# Altium footprint library Schottky.PcbLib: 11 footprints
Each footprint in its own frame and in the unit in brackets; x right, y up, seen from the top. Pads: shape width x height; smd on the part's side, far side on the other; paste and mask are expansions set on the pad; w line width, h text height; cw(c..) or ccw(c..) is an arc to the next point about the centre after c.
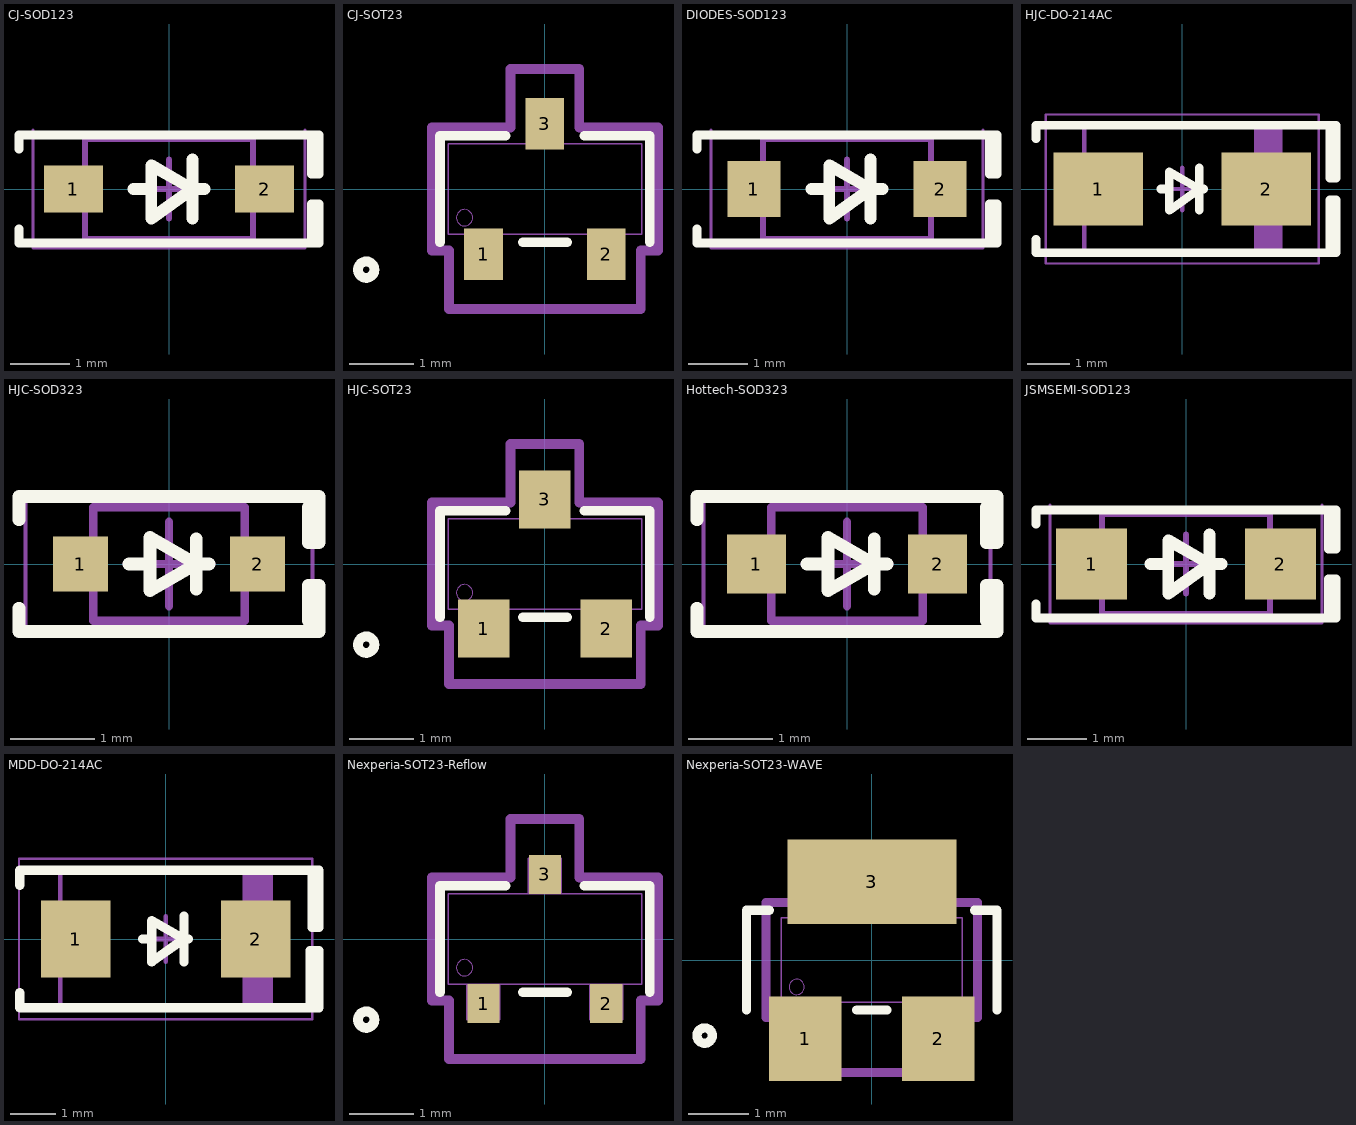
[diagram p0: the footprints below, top view; thin cyan lines are the x and y axes]

## CJ-SOD123 [mm] "CJ(江苏长电/长晶) SOD123 推荐封装"
pads (2):
  rect 1x0.8 smd: 1(-1.62,0) 2(1.62,0)
Top Overlay:
  lines w0.15: -2.54,-0.675 -2.54,-0.916 2.54,-0.916 ; -2.54,0.675 -2.54,0.916 2.54,0.916 ; 2.54,-0.916 2.54,-0.254 2.413,-0.254 2.413,-0.916 2.54,-0.916 ; 2.54,0.916 2.413,0.916 2.413,0.254 2.54,0.254 2.54,0.916
  lines w0.2: -0.6,0 -0.3,0 ; 0.4,-0.5 0.4,0.5 ; 0.6,0 0.4,0 ; 0.4,0 -0.3,-0.5 -0.3,0.4 0.4,0
Mechanical 13:
  lines w0.1: -1.425,-0.85 1.425,-0.85 1.425,0.85 -1.425,0.85 -1.425,-0.85
Mechanical 15:
  lines w0.05: -2.3,0.9 2.3,0.9 ; -2.3,1 -2.3,-1 2.3,-1 2.3,1
  lines w0.1: -0.5,0 0.5,0 ; 0,-0.5 0,0.5
3D body "SOD-123.step": height 1.27, standoff 0, extent -1.85,-0.8 1.85,0.8

## CJ-SOT23 [mm] "CJ(江苏长电/长晶) SOT23 回流焊"
pads (3):
  rect 0.6x0.8 smd mask+0.1: 1(-0.95,-1.01) 2(0.95,-1.01) 3(0,1.01)
Top Overlay:
  circle w0.152: c-2.769,-1.25 r0.127
  lines w0.152: -1.626,-0.826 -1.626,0.826 -0.612,0.826 ; -0.34,-0.826 0.34,-0.826 ; 0.612,0.826 1.626,0.826 1.626,-0.826
Mechanical 13:
  circle w0: c-1.245,-0.445 r0.127
  lines w0.025: -1.499,-0.699 1.499,-0.699 1.499,0.699 -1.499,0.699 -1.499,-0.699 ; -1.206,-1.25 -1.206,-0.699 -0.699,-0.699 -0.699,-1.25 -1.206,-1.25 ; -0.254,0.699 0.254,0.699 0.254,1.25 -0.254,1.25 -0.254,0.699 ; 0.699,-1.25 0.699,-0.699 1.206,-0.699 1.206,-1.25 0.699,-1.25
Mechanical 15:
  lines w0.152: -1.753,-0.953 -1.753,0.953 -0.533,0.953 -0.533,1.86 0.533,1.86 0.533,0.953 1.753,0.953 1.753,-0.953 1.486,-0.953 1.486,-1.86 -1.486,-1.86 -1.486,-0.953 -1.753,-0.953
3D body "SOT23_NEX.step": height 1.09, standoff 0, extent -1.499,-1.25 1.499,1.25

## DIODES-SOD123 [mm] "DIODES(美台) SOD123 推荐封装"
pads (2):
  rect 0.9x0.95 smd: 1(-1.575,0) 2(1.575,0)
Top Overlay:
  lines w0.15: -2.54,-0.675 -2.54,-0.916 2.54,-0.916 ; -2.54,0.675 -2.54,0.916 2.54,0.916 ; 2.54,-0.916 2.54,-0.254 2.413,-0.254 2.413,-0.916 2.54,-0.916 ; 2.54,0.916 2.413,0.916 2.413,0.254 2.54,0.254 2.54,0.916
  lines w0.2: -0.6,0 -0.3,0 ; 0.4,-0.5 0.4,0.5 ; 0.6,0 0.4,0 ; 0.4,0 -0.3,-0.5 -0.3,0.4 0.4,0
Mechanical 13:
  lines w0.1: -1.425,-0.85 1.425,-0.85 1.425,0.85 -1.425,0.85 -1.425,-0.85
Mechanical 15:
  lines w0.05: -2.3,0.9 2.3,0.9 ; -2.3,1 -2.3,-1 2.3,-1 2.3,1
  lines w0.1: -0.5,0 0.5,0 ; 0,-0.5 0,0.5
3D body "SOD-123.step": height 1.27, standoff 0, extent -1.85,-0.8 1.85,0.8

## HJC-DO-214AC [mm] "宏嘉诚 DO-214AC 推荐焊盘"
pads (2):
  rect 2.1x1.7 smd: 1(-1.965,0) 2(1.966,0)
Top Overlay:
  lines w0.2: -3.429,-1.175 -3.429,-1.5 3.604,-1.5 3.604,-0.254 3.454,-0.254 3.454,-1.5 ; -3.429,1.175 -3.429,1.5 3.604,1.5 3.604,0.254 3.454,0.254 3.454,1.5 ; -0.5,0 -0.3,0 ; 0.4,-0.5 0.4,0.5 ; 0.5,0 0.4,0 ; 0.4,0 -0.3,-0.5 -0.3,0.4 0.4,0
Mechanical 13:
  rectangle: 1.681,-1.46 2.3,1.46
  lines w0.1: -2.3,-1.46 2.3,-1.46 2.3,1.46 -2.3,1.46 -2.3,-1.46
Mechanical 15:
  lines w0.05: -3.2,-1.75 3.2,-1.75 3.2,1.75 -3.2,1.75 -3.2,-1.75
  lines w0.1: -0.5,0 0.5,0 ; 0,-0.5 0,0.5
3D body "DIOM5226X203N.STEP": height 2.04, standoff 0.01, extent -2.6,-1.3 2.6,1.3

## HJC-SOD323 [mm] "宏嘉诚 SOD-323推荐焊盘"
pads (2):
  rect 0.65x0.65 smd: 1(-1.05,0) 2(1.05,0)
Top Overlay:
  lines w0.15: -1.778,-0.525 -1.778,-0.8 1.778,-0.8 ; -1.778,0.525 -1.778,0.8 1.778,0.8 ; -0.475,0 -0.225,0 ; 0.325,-0.3 0.325,0.3 ; 0.475,0 0.325,0 ; 0.325,0 -0.225,-0.314 -0.225,0.314 0.325,0 ; 1.778,-0.8 1.778,-0.254 1.651,-0.254 1.651,-0.673 1.778,-0.8 ; 1.778,0.8 1.778,0.254 1.651,0.254 1.651,0.673 1.778,0.8
Mechanical 13:
  lines w0.1: -0.9,-0.675 0.9,-0.675 0.9,0.675 -0.9,0.675 -0.9,-0.675
Mechanical 15:
  lines w0.05: -1.7,-0.85 1.7,-0.85 1.7,0.85 -1.7,0.85 -1.7,-0.85
  lines w0.1: -0.5,0 0.5,0 ; 0,-0.5 0,0.5
3D body "SOD-323.step": height 0.99, standoff 0, extent -1.372,-0.698 1.372,0.698

## HJC-SOT23 [mm] "宏嘉诚 SOT23 回流焊"
pads (3):
  rect 0.8x0.9 smd mask+0.1: 1(-0.95,-1) 2(0.95,-1) 3(0,1)
Top Overlay:
  circle w0.152: c-2.769,-1.25 r0.127
  lines w0.152: -1.626,-0.826 -1.626,0.826 -0.612,0.826 ; -0.34,-0.826 0.34,-0.826 ; 0.612,0.826 1.626,0.826 1.626,-0.826
Mechanical 13:
  circle w0: c-1.245,-0.445 r0.127
  lines w0.025: -1.499,-0.699 -1.499,0.699 1.499,0.699 1.499,-0.699 -1.499,-0.699 ; -1.206,-1.25 -0.699,-1.25 -0.699,-0.699 -1.206,-0.699 -1.206,-1.25 ; -0.254,0.699 -0.254,1.25 0.254,1.25 0.254,0.699 -0.254,0.699 ; 0.699,-1.25 1.206,-1.25 1.206,-0.699 0.699,-0.699 0.699,-1.25
Mechanical 15:
  lines w0.152: -1.753,-0.953 -1.486,-0.953 -1.486,-1.86 1.486,-1.86 1.486,-0.953 1.753,-0.953 1.753,0.953 0.533,0.953 0.533,1.86 -0.533,1.86 -0.533,0.953 -1.753,0.953 -1.753,-0.953
3D body "SOT23_NEX.step": height 1.09, standoff 0, extent -1.499,-1.25 1.499,1.25

## Hottech-SOD323 [mm] "Hottech(合科泰) SOD-323推荐焊盘"
pads (2):
  rect 0.7x0.7 smd: 1(-1.075,0) 2(1.075,0)
Top Overlay:
  lines w0.15: -1.778,-0.525 -1.778,-0.8 1.778,-0.8 ; -1.778,0.525 -1.778,0.8 1.778,0.8 ; -0.475,0 -0.225,0 ; 0.325,-0.3 0.325,0.3 ; 0.475,0 0.325,0 ; 0.325,0 -0.225,0.314 -0.225,-0.314 0.325,0 ; 1.778,-0.8 1.651,-0.673 1.651,-0.254 1.778,-0.254 1.778,-0.8 ; 1.778,0.8 1.651,0.673 1.651,0.254 1.778,0.254 1.778,0.8
Mechanical 13:
  lines w0.1: -0.9,-0.675 -0.9,0.675 0.9,0.675 0.9,-0.675 -0.9,-0.675
Mechanical 15:
  lines w0.05: -1.7,-0.85 -1.7,0.85 1.7,0.85 1.7,-0.85 -1.7,-0.85
  lines w0.1: -0.5,0 0.5,0 ; 0,-0.5 0,0.5
3D body "SOD-323.step": height 0.99, standoff 0, extent -1.372,-0.698 1.372,0.698

## JSMSEMI-SOD123 [mm] "JSMSEMI(杰盛微) SOD123 推荐封装"
pads (2):
  rect 1.2x1.2 smd: 1(-1.6,0) 2(1.6,0)
Top Overlay:
  lines w0.15: -2.54,-0.675 -2.54,-0.916 2.54,-0.916 ; -2.54,0.675 -2.54,0.916 2.54,0.916 ; 2.54,-0.916 2.54,-0.254 2.413,-0.254 2.413,-0.916 2.54,-0.916 ; 2.54,0.916 2.413,0.916 2.413,0.254 2.54,0.254 2.54,0.916
  lines w0.2: -0.6,0 -0.3,0 ; 0.4,-0.5 0.4,0.5 ; 0.6,0 0.4,0 ; 0.4,0 -0.3,-0.5 -0.3,0.4 0.4,0
Mechanical 13:
  lines w0.1: -1.425,-0.85 1.425,-0.85 1.425,0.85 -1.425,0.85 -1.425,-0.85
Mechanical 15:
  lines w0.05: -2.3,0.9 2.3,0.9 ; -2.3,1 -2.3,-1 2.3,-1 2.3,1
  lines w0.1: -0.5,0 0.5,0 ; 0,-0.5 0,0.5
3D body "SOD-123.step": height 1.27, standoff 0, extent -1.85,-0.8 1.85,0.8

## MDD-DO-214AC [mm] "MDD(辰达半导体) DO-214AC 推荐焊盘"
pads (2):
  rect 1.52x1.68 smd: 1(-1.965,0) 2(1.966,0)
Top Overlay:
  lines w0.2: -3.183,-1.175 -3.183,-1.5 3.35,-1.5 3.35,-0.254 3.156,-0.254 3.156,-1.5 ; -3.183,1.175 -3.183,1.5 3.35,1.5 3.35,0.254 3.2,0.254 3.2,1.5 ; -0.5,0 -0.3,0 ; 0.4,-0.5 0.4,0.5 ; 0.5,0 0.4,0 ; 0.4,0 -0.3,0.4 -0.3,-0.5 0.4,0
Mechanical 13:
  rectangle: 1.681,-1.46 2.3,1.46
  lines w0.1: -2.3,-1.46 -2.3,1.46 2.3,1.46 2.3,-1.46 -2.3,-1.46
Mechanical 15:
  lines w0.05: -3.2,-1.75 -3.2,1.75 3.2,1.75 3.2,-1.75 -3.2,-1.75
  lines w0.1: -0.5,0 0.5,0 ; 0,-0.5 0,0.5
3D body "DIOM5028x230N.STEP": height 2.31, standoff 0.01, extent -2.5,-1.4 2.5,1.4

## Nexperia-SOT23-Reflow [mm] "Nexperia(安世) SOT23 回流焊"
pads (3):
  rect 0.5x0.6 smd mask+0.1: 1(-0.95,-1) 2(0.95,-1) 3(0,1)
Top Overlay:
  circle w0.152: c-2.769,-1.25 r0.127
  lines w0.152: -1.626,-0.826 -1.626,0.826 -0.612,0.826 ; -0.34,-0.826 0.34,-0.826 ; 0.612,0.826 1.626,0.826 1.626,-0.826
Mechanical 13:
  circle w0: c-1.245,-0.445 r0.127
  lines w0.025: -1.499,-0.699 -1.499,0.699 1.499,0.699 1.499,-0.699 -1.499,-0.699 ; -1.206,-1.25 -0.699,-1.25 -0.699,-0.699 -1.206,-0.699 -1.206,-1.25 ; -0.254,0.699 -0.254,1.25 0.254,1.25 0.254,0.699 -0.254,0.699 ; 0.699,-1.25 1.206,-1.25 1.206,-0.699 0.699,-0.699 0.699,-1.25
Mechanical 15:
  lines w0.152: -1.753,-0.953 -1.486,-0.953 -1.486,-1.86 1.486,-1.86 1.486,-0.953 1.753,-0.953 1.753,0.953 0.533,0.953 0.533,1.86 -0.533,1.86 -0.533,0.953 -1.753,0.953 -1.753,-0.953
3D body "SOT23_NEX.step": height 1.09, standoff 0, extent -1.499,-1.25 1.499,1.25

## Nexperia-SOT23-WAVE [mm] "Nexperia(安世) SOT23 波峰焊"
pads (3):
  rect 1.2x1.4 smd mask+0.1: 1(-1.1,-1.3) 2(1.1,-1.3)
  rect 2.8x1.4 smd mask+0.1: 3(0,1.3)
Top Overlay:
  circle w0.152: c-2.769,-1.25 r0.127
  lines w0.152: -2.075,-0.826 -2.075,0.826 -1.7,0.826 ; -0.25,-0.825 0.25,-0.825 ; 1.7,0.826 2.075,0.826 2.075,-0.826
Mechanical 13:
  circle w0: c-1.245,-0.445 r0.127
  lines w0.025: -1.499,-0.699 -1.499,0.699 1.499,0.699 1.499,-0.699 -1.499,-0.699 ; -1.206,-1.25 -0.699,-1.25 -0.699,-0.699 -1.206,-0.699 -1.206,-1.25 ; -0.254,0.699 -0.254,1.25 0.254,1.25 0.254,0.699 -0.254,0.699 ; 0.699,-1.25 1.206,-1.25 1.206,-0.699 0.699,-0.699 0.699,-1.25
Mechanical 15:
  lines w0.152: -1.753,-0.953 -1.486,-0.953 -1.486,-1.86 1.486,-1.86 1.486,-0.953 1.753,-0.953 1.753,0.953 0.533,0.953 0.533,1.86 -0.533,1.86 -0.533,0.953 -1.753,0.953 -1.753,-0.953
3D body "SOT23_NEX.step": height 1.09, standoff 0, extent -1.499,-1.25 1.499,1.25